# Altium schematic symbol library Capacitor.Schlib: 1 symbol
Pins are listed as number, name and electrical type; pins without a type are passive.

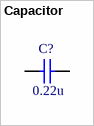
[diagram p0: symbol Capacitor]

## Capacitor
designator C?, comment 0.22u
Capacitor; Назначение: ЧИП-конденсатор; Наименование: К10-79 МП0 «ВП»; Published: 8-Jun-2000; Revision: July-2002: Re-released for DXP Platform.; Publisher: Altium Limited; Value: 0.22u
footprint CR-1206
footprint CR-0805
pins: 1, 2